# Altium footprint library SOIC127P599X175-8N v1.PCBLIB: 1 footprints
Each footprint in its own frame and in the unit in brackets; x right, y up, seen from the top. Pads: shape width x height; smd on the part's side, far side on the other; paste and mask are expansions set on the pad; w line width, h text height; cw(c..) or ccw(c..) is an arc to the next point about the centre after c.
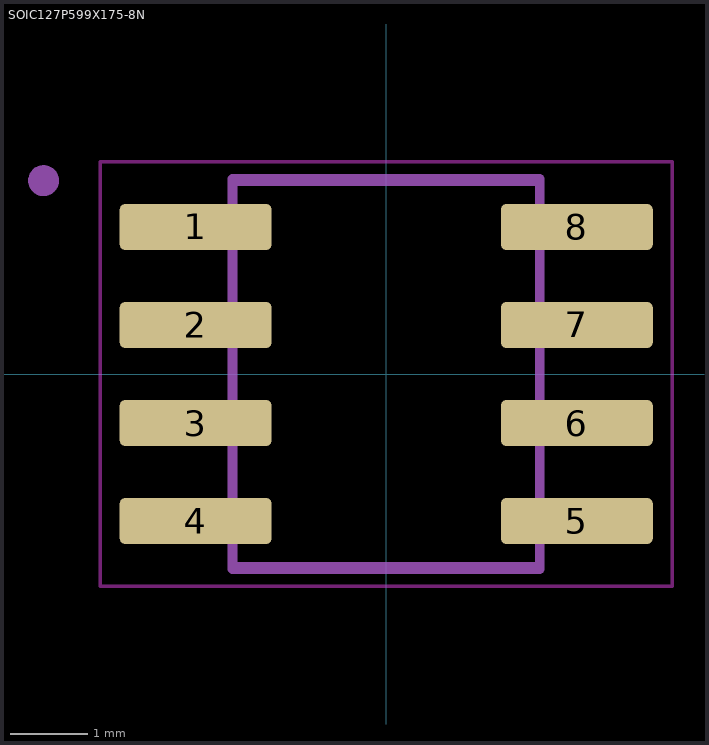
[diagram p0: the footprint, top view; thin cyan lines are the x and y axes]

## SOIC127P599X175-8N [mil]
pads (8):
  rrect25% 77.56x23.62 smd: 1(-97.24,75) 2(-97.24,25) 3(-97.24,-25) 4(-97.24,-75) 5(97.24,-75) 6(97.24,-25) 7(97.24,25) 8(97.24,75)
Top keep-out:
  lines w1.97: -145.87,-108.27 145.87,-108.27 145.87,108.27 -145.87,108.27 -145.87,-108.27
tDocu:
  circle w7.87: c-174.8,98.62 r3.94
  lines w5: -78.35,-98.43 78.35,-98.43 78.35,98.43 -78.35,98.43 -78.35,-98.43
tPlace:
  circle w7.87: c-174.8,98.62 r3.94
  lines w5: -78.35,-99.41 78.35,-99.41 ; -78.35,99.41 78.35,99.41